# EAGLE library part LTC3732 (library PowerProducts)
3-Phase, 5-Bit VID, 600kHz, Synchronous Buck Switching Regulator Controller
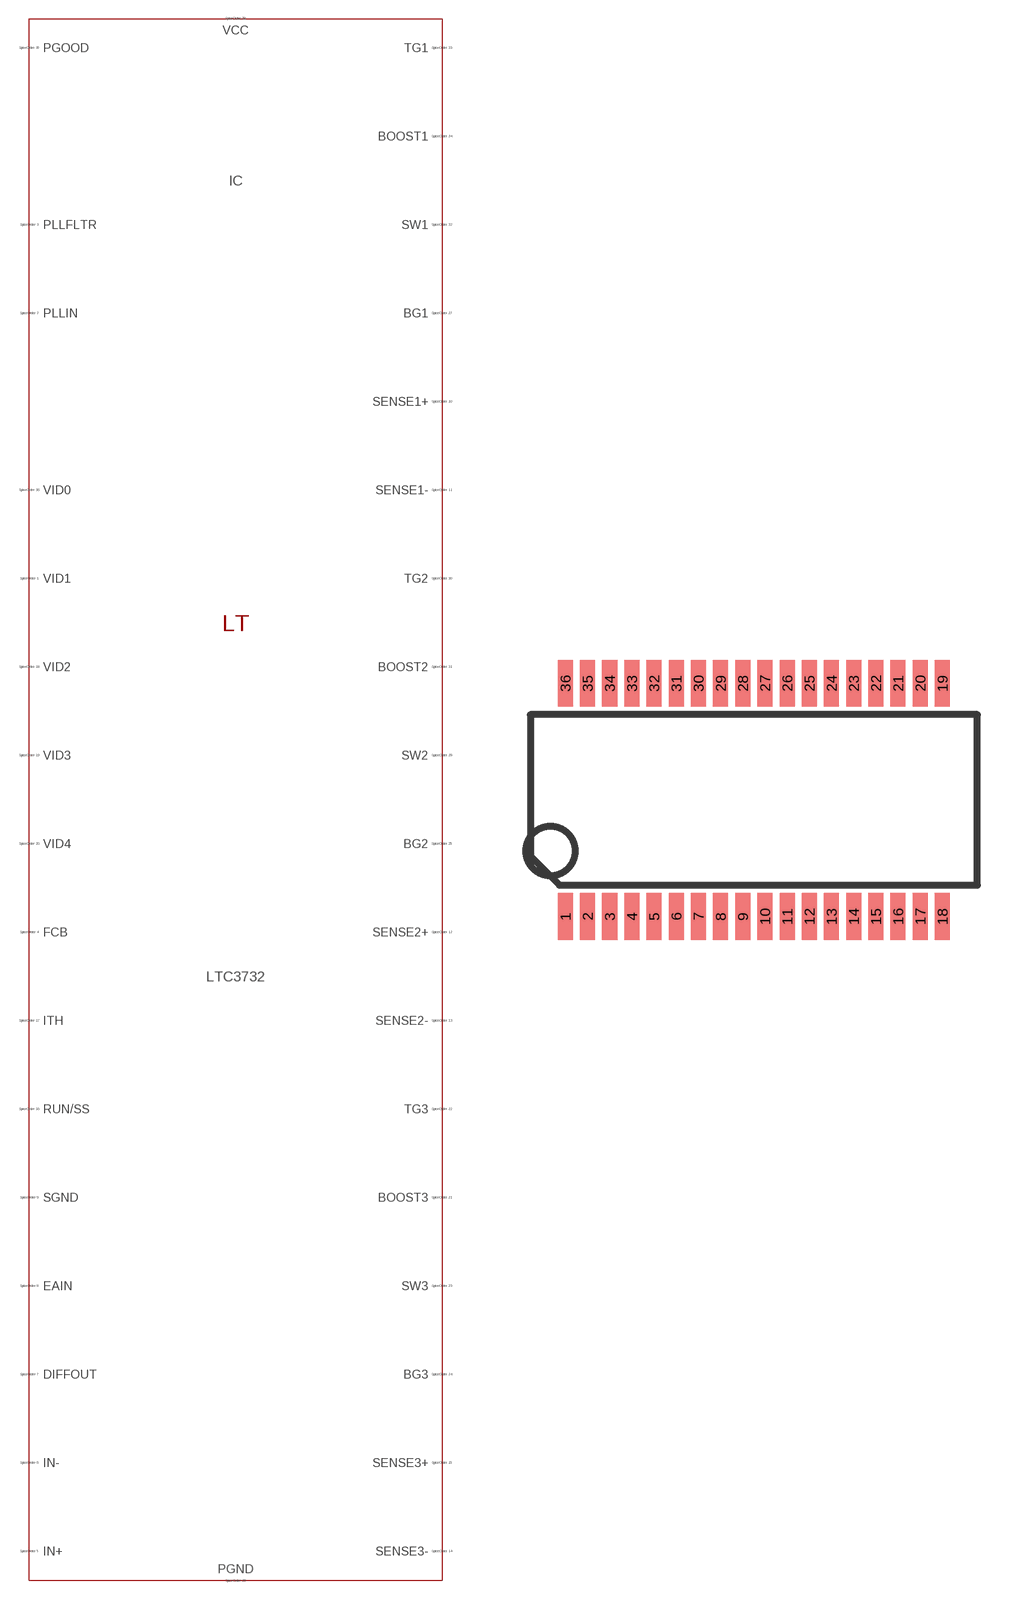
[diagram p310: symbol with the pads of SSOP36(G); footprint SSOP36(G)]

Designator prefix IC

## LTC3732 (SPICEMODEL: LTC3732.sub; SPICEPREFIX: X; VALUE2: LTC3732)  [SSOP36(G)]
1  VID1  pas
2  PLLIN  pas
3  PLLFLTR  pas
4  FCB  pas
5  IN+  pas
6  IN-  pas
7  DIFFOUT  pas
8  EAIN  pas
9  SGND  pas
10  SENSE1+  pas
11  SENSE1-  pas
12  SENSE2+  pas
13  SENSE2-  pas
14  SENSE3-  pas
15  SENSE3+  pas
16  RUN/SS  pas
17  ITH  pas
18  VID2  pas
19  VID3  pas
20  VID4  pas
21  BOOST3  pas
22  TG3  pas
23  SW3  pas
24  BG3  pas
25  BG2  pas
26  PGND  pas
27  BG1  pas
28  VCC  pas
29  SW2  pas
30  TG2  pas
31  BOOST2  pas
32  SW1  pas
33  TG1  pas
34  BOOST1  pas
35  PGOOD  pas
36  VID0  pas

## Footprint SSOP36(G) (pad centres in mm)
Package generated from: SSOP36(G).asc (!PADS-POWERPCB-V5.0-BASIC! DESIGN DATABASE ASCII FILE 1.0) with :import-pads-powerpcb-v5.ulp Version 1.0.1 at 04.10.2012 14:11:39
smd 0.66 x 2.055: 1 -8.287,-5.122; 2 -7.312,-5.122; 3 -6.338,-5.122; 4 -5.362,-5.122; 5 -4.388,-5.122; 6 -3.413,-5.122; 7 -2.438,-5.122; 8 -1.462,-5.122; 9 -0.487,-5.122; 10 0.487,-5.122; 11 1.462,-5.122; 12 2.438,-5.122; 13 3.413,-5.122; 14 4.388,-5.122; 15 5.362,-5.122; 16 6.338,-5.122; 17 7.312,-5.122; 18 8.287,-5.122; 19 8.287,5.122; 20 7.312,5.122; 21 6.338,5.122; 22 5.362,5.122; 23 4.388,5.122; 24 3.413,5.122; 25 2.438,5.122; 26 1.462,5.122; 27 0.487,5.122; 28 -0.487,5.122; 29 -1.462,5.122; 30 -2.438,5.122; 31 -3.413,5.122; 32 -4.388,5.122; 33 -5.362,5.122; 34 -6.338,5.122; 35 -7.312,5.122; 36 -8.287,5.122